# EAGLE library part PWR_LOADSW_TPS22917DBVR (library !GPLIB_ACTIVE)
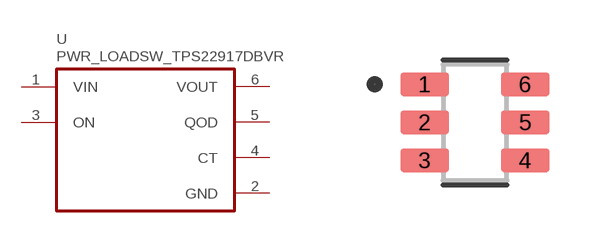
[diagram p96: symbol with the pads of SOT95P280X145-6N; footprint SOT95P280X145-6N]

Designator prefix U

## PWR_LOADSW_TPS22917DBVR  [SOT95P280X145-6N]
1  VIN  in
2  GND  pwr
3  ON  in
4  CT  out
5  QOD  out
6  VOUT  out

## Footprint SOT95P280X145-6N (pad centres in mm)
smd 1.21 x 0.58: 1 -1.255,0.95; 2 -1.255,0; 3 -1.255,-0.95; 4 1.255,-0.95; 5 1.255,0; 6 1.255,0.95